# EAGLE library part LMZ1050X (library NMR-relaxometry)
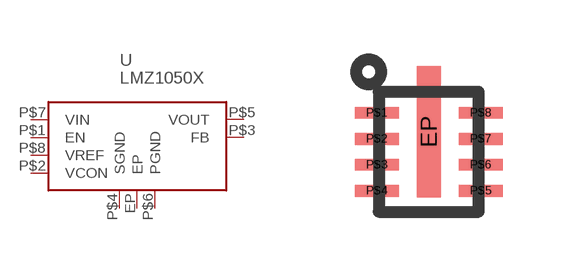
[diagram p6: symbol with the pads of LLP-8; footprint LLP-8]

Designator prefix -

## LMZ1050X  [LLP-8]
EP  EP  pwr
P$1  EN  in
P$2  VCON  pas
P$3  FB  pas
P$4  SGND  pwr
P$5  VOUT  pwr
P$6  PGND  pwr
P$7  VIN  pwr
P$8  VREF  pas

## Footprint LLP-8 (pad centres in mm)
smd 0.6 x 3.3: EP 0,0.5
smd 1.1 x 0.3: P$1 -1.3,0.975; P$2 -1.3,0.325; P$3 -1.3,-0.325; P$4 -1.3,-0.975; P$5 1.3,-0.975; P$6 1.3,-0.325; P$7 1.3,0.325; P$8 1.3,0.975